# Altium footprint library HMC1001_module.PcbLib: 21 footprints (part 1 of 2)
Each footprint in its own frame and in the unit in brackets; x right, y up, seen from the top. Pads: shape width x height; smd on the part's side, far side on the other; paste and mask are expansions set on the pad; w line width, h text height; cw(c..) or ccw(c..) is an arc to the next point about the centre after c.
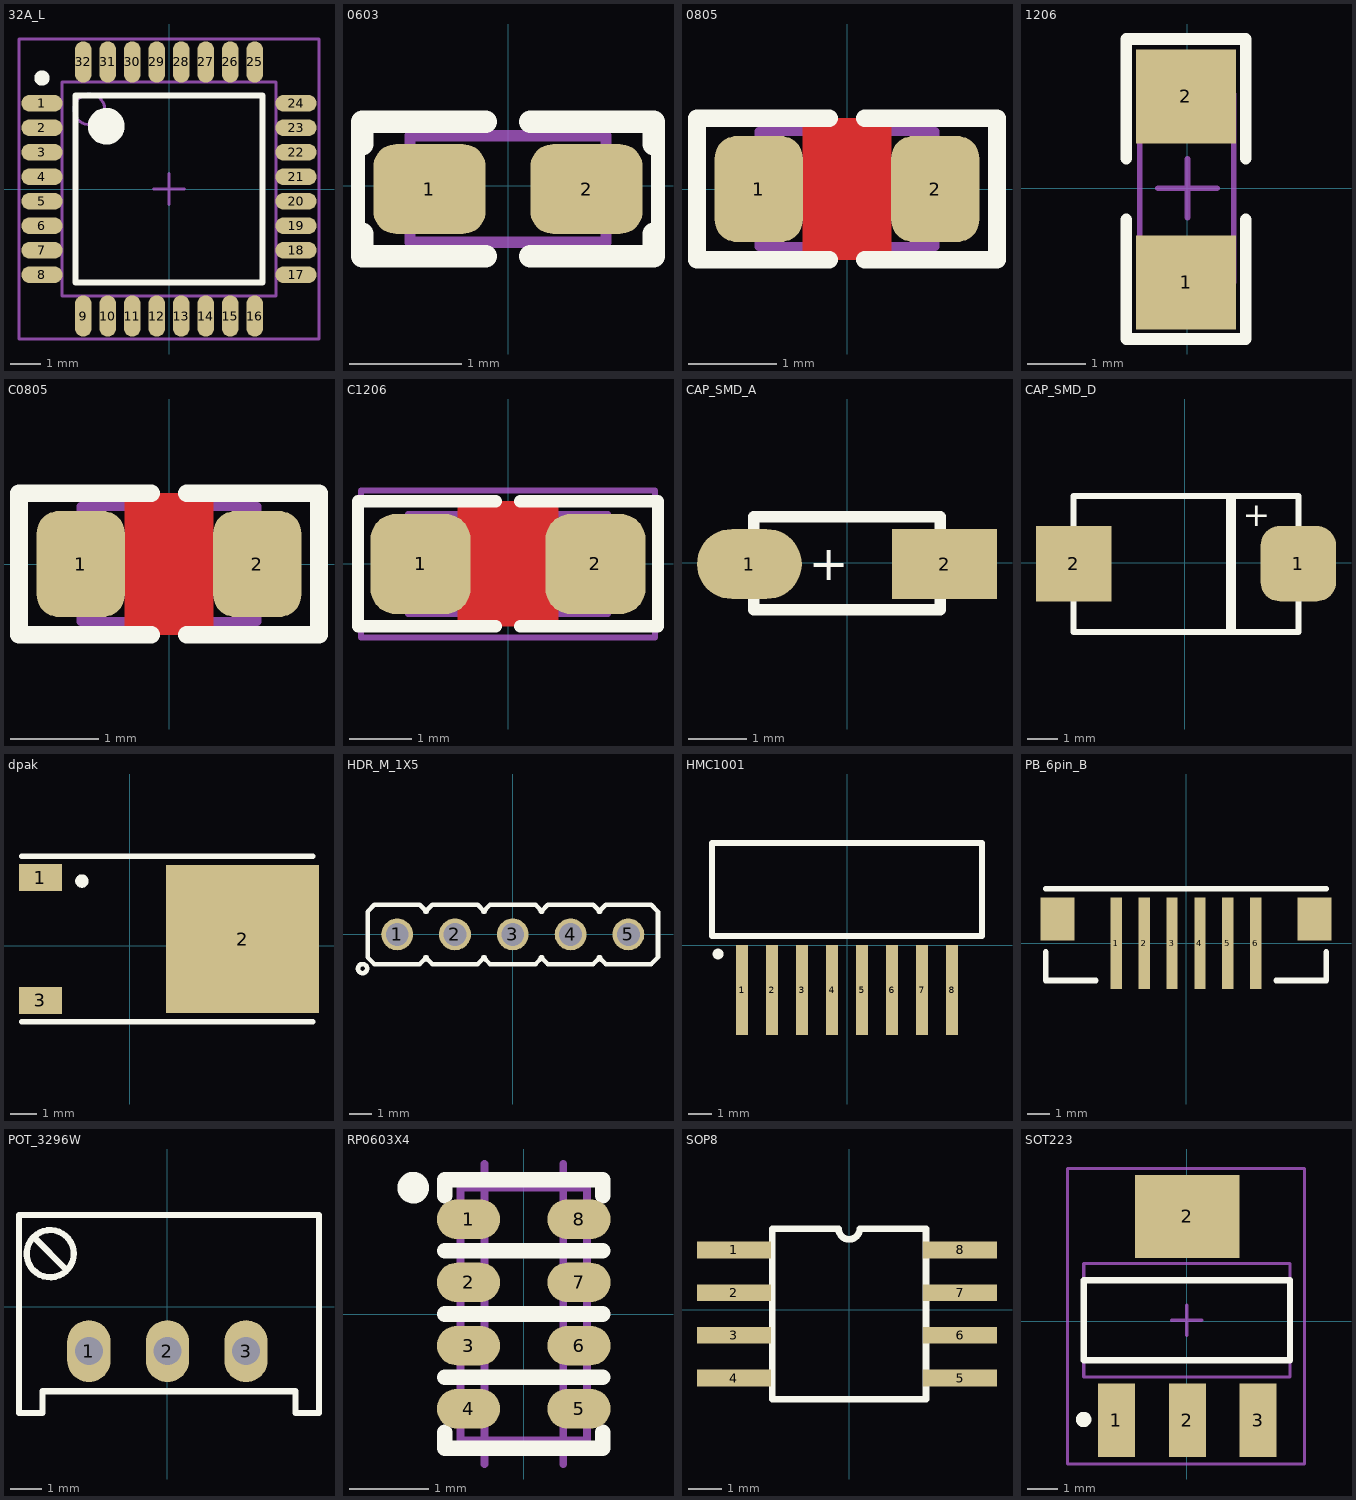
[diagram p0: the footprints below, top view; thin cyan lines are the x and y axes]

## 32A_L [mm] "Thin QFP, 32-Leads, Body 7x7mm, Pitch 0.8mm, IPC High Density"
height 1.2
pads (32):
  oval 1.35x0.55 smd: 1(-4.15,2.8) 2(-4.15,2) 3(-4.15,1.2) 4(-4.15,0.4) 5(-4.15,-0.4) 6(-4.15,-1.2) 7(-4.15,-2) 8(-4.15,-2.8) 17(4.15,-2.8) 18(4.15,-2) 19(4.15,-1.2) 20(4.15,-0.4) 21(4.15,0.4) 22(4.15,1.2) 23(4.15,2) 24(4.15,2.8)
  oval 0.55x1.35 smd: 9(-2.8,-4.15) 10(-2,-4.15) 11(-1.2,-4.15) 12(-0.4,-4.15) 13(0.4,-4.15) 14(1.2,-4.15) 15(2,-4.15) 16(2.8,-4.15) 25(2.8,4.15) 26(2,4.15) 27(1.2,4.15) 28(0.4,4.15) 29(-0.4,4.15) 30(-1.2,4.15) 31(-2,4.15) 32(-2.8,4.15)
Top Overlay:
  circle w0.25: c-4.15,3.625 r0.125
  circle w0.6: c-2.05,2.05 r0.3
  lines w0.2: -3.05,-3.05 -3.05,3.05 3.05,3.05 3.05,-3.05 -3.05,-3.05
Mechanical 13:
  circle w0.1: c-2.6,2.6 r0.5
  lines w0.1: -3.5,-3.5 -3.5,3.5 3.5,3.5 3.5,-3.5 -3.5,-3.5
Mechanical 15:
  lines w0.1: -0.5,0 0.5,0 ; 0,-0.5 0,0.5 ; -4.9,-4.9 -4.9,4.9 4.9,4.9 4.9,-4.9 -4.9,-4.9
3D body: height 1.2, standoff 0, extent -3.5,-3.5 3.5,3.5

## 0603 [mm]
pads (2):
  rrect50% 1x0.8 smd mask+0.075: 1(-0.7,-0.027) 2(0.7,-0.027)
Top Overlay:
  lines w0.125: -1.337,-0.427 -1.337,0.373 ; 1.337,-0.427 1.337,0.373
  lines w0.2: -1.3,-0.427 -1.3,-0.627 -0.2,-0.627 ; -1.3,0.373 -1.3,0.573 -0.2,0.573 ; 0.2,-0.627 1.3,-0.627 1.3,-0.427 ; 0.2,0.573 1.3,0.573 1.3,0.373
Mechanical 13:
  lines w0.1: -0.875,-0.502 -0.875,0.448 0.875,0.448 0.875,-0.502 -0.875,-0.502
3D body: height 0.6, standoff 0, extent -0.875,-0.502 0.875,0.448

## 0805 [mm] ",0805, 2012, 200X130"
pads (2):
  rrect50% 1x1.2 smd mask+0.075: 1(-1,0) 2(1,0)
Top Layer:
  pour cut-out: -0.5,0.8 0.5,0.8 0.5,-0.8 -0.5,-0.8
Top Overlay:
  lines w0.2: -0.2,-0.8 -1.7,-0.8 -1.7,0.8 -0.2,0.8 ; 0.2,-0.8 1.7,-0.8 1.7,0.8 0.2,0.8
Mechanical 13:
  lines w0.1: -1,-0.65 -1,0.65 1,0.65 1,-0.65 -1,-0.65
3D body: height 0.8, standoff 0, extent -1,-0.65 1,0.65

## 1206 [mm]
pads (2):
  rect 1.7x1.6 smd: 1(-0.025,-1.6) 2(-0.025,1.563)
Top Overlay:
  lines w0.2: -1.041,-0.533 -1.041,-2.565 0.991,-2.565 0.991,-0.533 ; -1.041,0.508 -1.041,2.54 0.991,2.54 0.991,0.508
Mechanical 15:
  lines w0.1: -0.5,0 0.5,0 ; 0,-0.5 0,0.5 ; -0.813,-1.6 0.787,-1.6 0.787,1.6 -0.813,1.6 -0.813,-1.6
3D body: height 1.1, standoff 0, extent -0.813,-1.422 0.787,1.422
3D body: height 1.1, standoff 0, extent -0.813,-1.676 0.787,-1.422
3D body: height 1.1, standoff 0, extent -0.813,1.422 0.787,1.676

## C0805 [mm] "CHIP Capacitor, 2.0X1.3mm, 0805"
pads (2):
  rrect50% 1x1.2 smd mask+0.075: 1(-1,0) 2(1,0)
Top Layer:
  pour cut-out: -0.5,0.8 0.5,0.8 0.5,-0.8 -0.5,-0.8
Top Overlay:
  lines w0.2: -0.2,-0.8 -1.7,-0.8 -1.7,0.8 -0.2,0.8 ; 0.2,-0.8 1.7,-0.8 1.7,0.8 0.2,0.8
Mechanical 13:
  lines w0.1: -1,-0.65 1,-0.65 1,0.65 -1,0.65 -1,-0.65
3D body: height 1, standoff 0, extent -1,-0.625 1,0.625

## C1206 [mm] "CHIP Capacitor, 3.2X1.6mm, 1206"
height 2
pads (2):
  rrect50% 1.6x1.6 smd mask+0.075: 1(-1.4,0) 2(1.4,0)
Top Layer:
  pour cut-out: -0.8,1 -0.8,-1 0.8,-1 0.8,1
Top Overlay:
  lines w0.2: -0.2,-1 -2.4,-1 -2.4,1 -0.2,1 ; 0.2,-1 2.4,-1 2.4,1 0.2,1
Mechanical 13:
  lines w0.1: -1.6,-0.8 1.6,-0.8 1.6,0.8 -1.6,0.8 -1.6,-0.8
Mechanical 15:
  lines w0.1: -0.5,0 0.5,0 ; 0,-0.5 0,0.5 ; -2.35,-1.175 2.35,-1.175 2.35,1.175 -2.35,1.175 -2.35,-1.175
3D body: height 1, standoff 0, extent -1.6,-0.8 1.6,0.8

## CAP_SMD_A [mm]
pads (2):
  oval 1.8x1.2 smd: 1(-1.676,-0.025)
  rect 1.8x1.2 smd: 2(1.676,-0.025)
Top Overlay:
  lines w0.2: -1.6,-0.813 -1.6,0.787 1.6,0.787 1.6,-0.813 -1.6,-0.813
  text "+" at -0.66,-0.305 h0.6
3D body: height 1.7, standoff 0, extent -1.7,-0.889 1.7,0.911

## CAP_SMD_D [mm]
pads (2):
  rrect50% 2.5x2.5 smd: 1(3.767,-0.025)
  rect 2.5x2.5 smd: 2(-3.683,-0.025)
Top Overlay:
  rectangle: 1.372,-2.286 1.702,2.214
  lines w0.2: -3.683,-2.286 3.767,-2.286 3.767,2.214 -3.683,2.214 -3.683,-2.286
  text "+" at 1.93,1.219 h0.8
3D body: height 4.2, standoff 0, extent -3.319,-2.418 4.081,2.032

## dpak [mm]
pads (3):
  rect 1.6x1 smd: 1(-3.319,2.539) 3(-3.319,-2.031)
  rect 5.7x5.5 smd: 2(4.208,0.254)
Top Overlay:
  circle w0.25: c-1.776,2.413 r0.125
  lines w0.2: -4.019,-2.831 6.831,-2.831 ; -4.019,3.339 6.831,3.339
3D body: height 2.44, standoff 0.03, extent -3.699,-3.048 6.239,3.492

## HDR_M_1X5 [mm] "Connector; Header; 5 Position"
pads (5):
  round 1.4 / inner round 1.4 / far side oval 1.4x2.2 hole 1 mask+0.1: 1(-5.08,0) 2(-2.54,0) 3(0,0) 4(2.54,0) 5(5.08,0)
Top Overlay:
  circle w0.2: c-6.6,-1.5 r0.2
  lines w0.2: -3.84,-1 -3.54,-1.3 -1.54,-1.3 -1.24,-1 ; -3.84,1 -3.54,1.3 -1.54,1.3 -1.24,1 ; -3.78,-1 -4.08,-1.3 -6.08,-1.3 -6.38,-1 -6.38,1 -6.08,1.3 -4.08,1.3 -3.78,1 ; -1.3,-1 -1,-1.3 1,-1.3 1.3,-1 ; -1.3,1 -1,1.3 1,1.3 1.3,1 ; 1.24,-1 1.54,-1.3 3.54,-1.3 3.84,-1 ; 1.24,1 1.54,1.3 3.54,1.3 3.84,1 ; 3.78,-1 4.08,-1.3 6.08,-1.3 6.38,-1 6.38,1 6.08,1.3 4.08,1.3 3.78,1
3D body: height 8.54, standoff -2.9, extent -3.81,-1.27 -1.27,1.27
3D body: height 8.54, standoff -2.9, extent -6.35,-1.27 -3.81,1.27
3D body: height 8.54, standoff -2.9, extent -1.27,-1.27 1.27,1.27
3D body: height 8.54, standoff -2.9, extent 1.27,-1.27 3.81,1.27
3D body: height 8.54, standoff -2.9, extent 3.81,-1.27 6.35,1.27

## HMC1001 [mm]
pads (8):
  rect 0.5x3.81 smd: 1(-4.445,-1.905) 2(-3.175,-1.905) 3(-1.905,-1.905) 4(-0.635,-1.905) 5(0.635,-1.905) 6(1.905,-1.905) 7(3.175,-1.905) 8(4.445,-1.905)
Top Overlay:
  circle w0.254: c-5.461,-0.381 r0.102
  lines w0.254: -5.715,0.381 5.715,0.381 5.715,4.318 -5.715,4.318 -5.715,0.381

## PB_6pin_B [mm] "White SMD Connector 6pin"
height 10
pads (8):
  rect 0.508x4.064 smd: 1(-3.1,0) 2(-1.86,0) 3(-0.62,0) 4(0.62,0) 5(1.86,0) 6(3.1,0)
  rect 1.5x1.9 smd: ""(-5.7,1.082) ""(5.7,1.082)
Top Overlay:
  lines w0.254: -6.223,-0.381 -6.223,-1.651 -4,-1.651 ; -6.223,2.413 6.223,2.413 ; 4,-1.651 6.223,-1.651 6.223,-0.381

## POT_3296W [mm] "POT, TRIM, 10.0X5.0mm, pitch: 2.5mm 3299W 3296W S64W"
pads (3):
  oval 1.4x2 / inner round 1.2 / far side oval 1.4x2 hole 0.9: 1(-2.537,-1.43) 2(0.003,-1.43) 3(2.543,-1.43)
Top Overlay:
  circle w0.2: c-3.788,1.721 r0.762
  lines w0.2: -4.296,2.229 -3.28,1.213 ; -4.797,-3.43 -4.042,-3.43 -4.042,-2.73 4.148,-2.73 4.148,-3.43 4.903,-3.43 4.903,2.97 -4.797,2.97 -4.797,-3.43
3D body: height 11.56, standoff -6.22, extent -4.722,-3.278 4.803,2.818

## RP0603X4 [mm] "RPACK, 0603X4, 160X80X4 1206"
height 0.4
pads (8):
  oval 0.8x0.5 smd: 1(-0.7,1.2) 2(-0.7,0.4) 3(-0.7,-0.4) 4(-0.7,-1.2) 5(0.7,-1.2) 6(0.7,-0.4) 7(0.7,0.4) 8(0.7,1.2)
Top Overlay:
  circle w0.2: c-1.4,1.6 r0.1
  lines w0.2: -1,-1.5 -1,-1.7 1,-1.7 1,-1.5 ; -1,-0.8 1,-0.8 ; -1,0 1,0 ; -1,0.8 1,0.8 ; -1,1.5 -1,1.7 1,1.7 1,1.5
Mechanical 13:
  lines w0.1: -0.5,-1.9 -0.5,1.9 ; 0.5,-1.9 0.5,1.9 ; -0.8,-1.6 -0.8,1.6 0.8,1.6 0.8,-1.6 -0.8,-1.6
  text "4X0402" at -1.3,2.1 h0.5
  text "0603X4" at -1.3,-2.6 h0.5
3D body: height 0.5, standoff 0, extent -0.8,-1.6 0.8,1.6

## SOP8 [mm]
pads (8):
  rect 2.2x0.5 smd: 1(-3.429,1.778) 2(-3.429,0.508) 3(-3.429,-0.762) 4(-3.429,-2.032) 5(3.298,-2.032) 6(3.298,-0.762) 7(3.298,0.508) 8(3.298,1.778)
Top Overlay:
  lines w0.2: -2.286,-2.667 -2.286,2.413 -0.32,2.413 ccw(c-0.002,2.413) 0.315,2.413 2.286,2.413 2.286,-2.667 -2.286,-2.667
3D body: height 1.7, standoff 0, extent -3.006,-2.564 2.994,2.336

## SOT223 [mm]
pads (4):
  rect 1.2x2.4 smd: 1(-2.286,-3.226) 2(0.017,-3.226) 3(2.316,-3.226)
  rect 3.4x2.7 smd: 2(0.017,3.404)
Top Overlay:
  circle w0.25: c-3.351,-3.2 r0.125
  lines w0.2: -3.35,-1.275 3.35,-1.275 3.35,1.325 -3.35,1.325 -3.35,-1.275
Mechanical 13:
  lines w0.1: -3.35,-1.825 3.35,-1.825 3.35,1.875 -3.35,1.875 -3.35,-1.825
Mechanical 15:
  lines w0.1: -0.5,0.025 0.5,0.025 ; 0,-0.475 0,0.525 ; -3.875,-4.648 -3.875,4.952 3.825,4.952 3.825,-4.648 -3.875,-4.648
3D body: height 1.7, standoff 0, extent -3.35,-1.825 3.35,1.875